# EAGLE library part PIC32MX150F128D (library Development_Board)
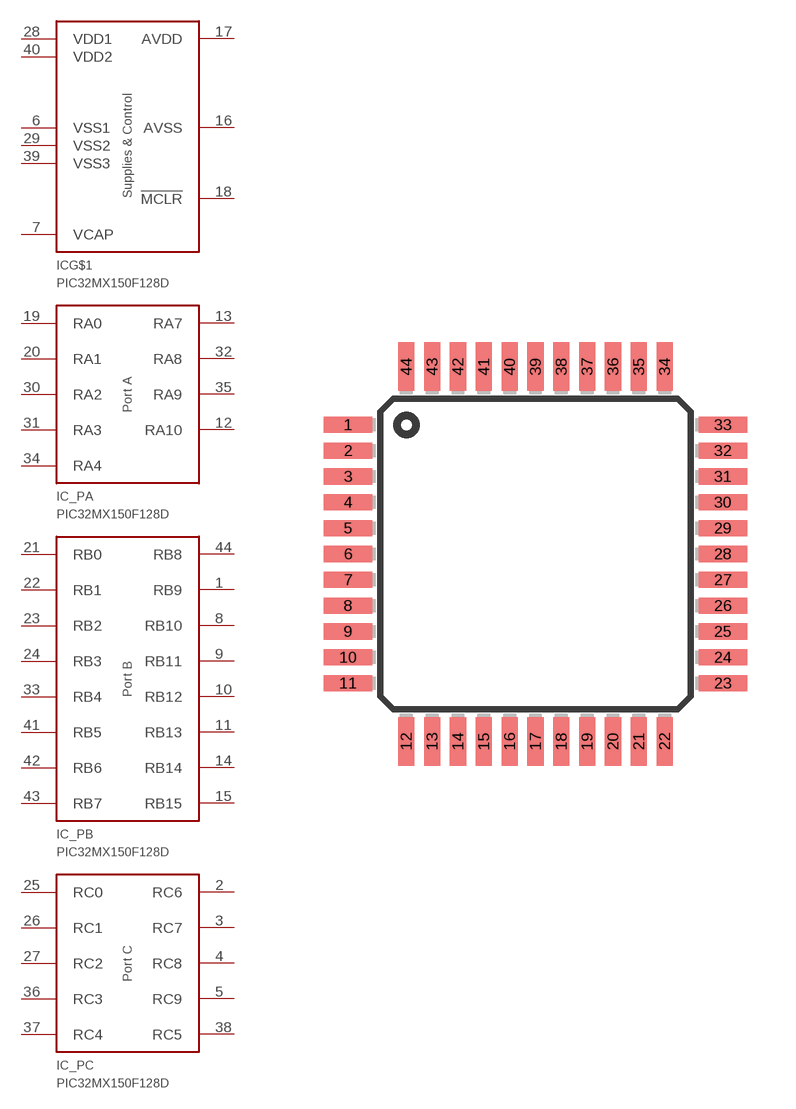
[diagram p2: symbol with the pads of TQFP-44; footprint TQFP-44]

Designator prefix IC; gates G$1=PIC32MX150F128D_SUPPLY _PA=PIC32MX150F128D_PORTA _PB=PIC32MX150F128D_PORTB _PC=PIC32MX150F128D_PORTC

## PIC32MX150F128D  [TQFP-44]
1  _PB:RB9
2  _PC:RC6
3  _PC:RC7
4  _PC:RC8
5  _PC:RC9
6  G$1:VSS1  sup
7  G$1:VCAP  pas
8  _PB:RB10
9  _PB:RB11
10  _PB:RB12
11  _PB:RB13
12  _PA:RA10
13  _PA:RA7
14  _PB:RB14
15  _PB:RB15
16  G$1:AVSS  sup
17  G$1:AVDD  sup
18  G$1:!MCLR  in
19  _PA:RA0
20  _PA:RA1
21  _PB:RB0
22  _PB:RB1
23  _PB:RB2
24  _PB:RB3
25  _PC:RC0
26  _PC:RC1
27  _PC:RC2
28  G$1:VDD1  sup
29  G$1:VSS2  sup
30  _PA:RA2
31  _PA:RA3
32  _PA:RA8
33  _PB:RB4
34  _PA:RA4
35  _PA:RA9
36  _PC:RC3
37  _PC:RC4
38  _PC:RC5
39  G$1:VSS3  sup
40  G$1:VDD2  sup
41  _PB:RB5
42  _PB:RB6
43  _PB:RB7
44  _PB:RB8

## Footprint TQFP-44 (pad centres in mm)
Thin Quad Flat Pack package type TQ
smd 1.5 x 0.5: 1 -5.8,4; 2 -5.8,3.2; 3 -5.8,2.4; 4 -5.8,1.6; 5 -5.8,0.8; 6 -5.8,0; 7 -5.8,-0.8; 8 -5.8,-1.6; 9 -5.8,-2.4; 10 -5.8,-3.2; 11 -5.8,-4; 23 5.8,-4; 24 5.8,-3.2; 25 5.8,-2.4; 26 5.8,-1.6; 27 5.8,-0.8; 28 5.8,0; 29 5.8,0.8; 30 5.8,1.6; 31 5.8,2.4; 32 5.8,3.2; 33 5.8,4
smd 0.5 x 1.5: 12 -4,-5.8; 13 -3.2,-5.8; 14 -2.4,-5.8; 15 -1.6,-5.8; 16 -0.8,-5.8; 17 0,-5.8; 18 0.8,-5.8; 19 1.6,-5.8; 20 2.4,-5.8; 21 3.2,-5.8; 22 4,-5.8; 34 4,5.8; 35 3.2,5.8; 36 2.4,5.8; 37 1.6,5.8; 38 0.8,5.8; 39 0,5.8; 40 -0.8,5.8; 41 -1.6,5.8; 42 -2.4,5.8; 43 -3.2,5.8; 44 -4,5.8